# Altium footprint library HDR_1X2_2.5.PcbLib: 1 footprints
Each footprint in its own frame and in the unit in brackets; x right, y up, seen from the top. Pads: shape width x height; smd on the part's side, far side on the other; paste and mask are expansions set on the pad; w line width, h text height; cw(c..) or ccw(c..) is an arc to the next point about the centre after c.
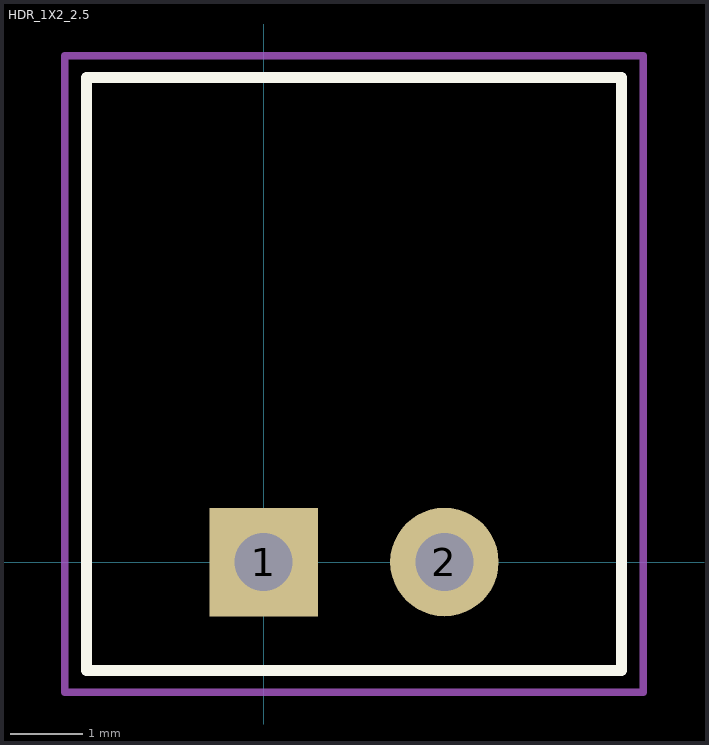
[diagram p0: the footprint, top view; thin cyan lines are the x and y axes]

## HDR_1X2_2.5 [mm]
height 3.8
pads (2):
  rect 1.5x1.5 hole 0.8: 1(0,0)
  round 1.5 hole 0.8: 2(2.5,0)
Top Overlay:
  lines w0.152: -2.45,-1.5 -2.45,6.7 4.95,6.7 4.95,-1.5 -2.45,-1.5
Mechanical 13:
  lines w0.1: -2.45,-1.5 4.95,-1.5 4.95,6.7 -2.45,6.7 -2.45,-1.5
Mechanical 15:
  lines w0.1: -2.75,-1.8 5.25,-1.8 5.25,7 -2.75,7 -2.75,-1.8
3D body: height 4.01, standoff -2.37, extent -2.5,-1.5 5,6.7